# Altium footprint library PCB - LEADED - SOP - TI TSSOP-16 PWP0016C.PcbLib: 1 footprints
Each footprint in its own frame and in the unit in brackets; x right, y up, seen from the top. Pads: shape width x height; smd on the part's side, far side on the other; paste and mask are expansions set on the pad; w line width, h text height; cw(c..) or ccw(c..) is an arc to the next point about the centre after c.
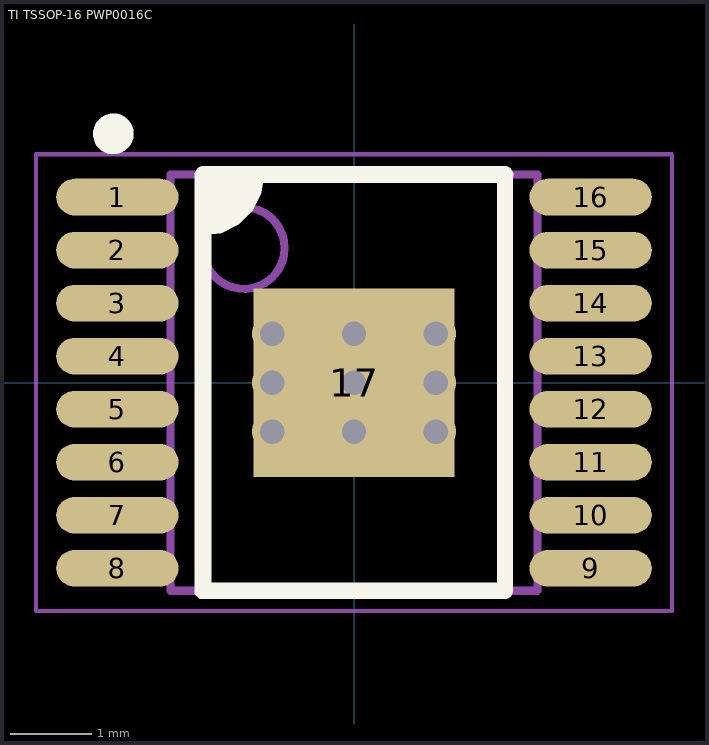
[diagram p0: the footprint, top view; thin cyan lines are the x and y axes]

## TI TSSOP-16 PWP0016C [mm] "TSOP, 16-Leads, Body 5.00x4.45mm, Pitch 0.65mm, Thermal Pad 2.31x2.46mm, IPC Medium Density"
height 1.2
pads (17):
  oval 1.5x0.45 smd: 1(-2.9,2.275) 2(-2.9,1.625) 3(-2.9,0.975) 4(-2.9,0.325) 5(-2.9,-0.325) 6(-2.9,-0.975) 7(-2.9,-1.625) 8(-2.9,-2.275) 9(2.9,-2.275) 10(2.9,-1.625) 11(2.9,-0.975) 12(2.9,-0.325) 13(2.9,0.325) 14(2.9,0.975) 15(2.9,1.625) 16(2.9,2.275)
  rect 2.46x2.31 smd: 17(0,0)
via 0,-0.6 diameter 0.5 hole 0.3
via 0,0.6 diameter 0.5 hole 0.3
via -1,0 diameter 0.5 hole 0.3
via 1,0 diameter 0.5 hole 0.3
via 0,0 diameter 0.5 hole 0.3
via 1,-0.6 diameter 0.5 hole 0.3
via -1,-0.6 diameter 0.5 hole 0.3
via 1,0.6 diameter 0.5 hole 0.3
via -1,0.6 diameter 0.5 hole 0.3
Top Overlay:
  circle w0.25: c-2.95,3.05 r0.125
  region: -1.95,-2.55 -1.95,2.55 -1.95,2.57 -1.935,2.607 -1.907,2.635 -1.87,2.65 -1.85,2.65 1.85,2.65 1.87,2.65 1.907,2.635 1.935,2.607 1.95,2.57 1.95,2.55 1.95,2.53 1.935,2.493 1.907,2.465 1.87,2.45 1.85,2.45 -1.118,2.45 -1.135,2.33 -1.242,2.113 -1.413,1.942 -1.63,1.835 -1.75,1.818 -1.75,-2.55 -1.75,-2.592 -1.808,-2.65 -1.892,-2.65 -1.95,-2.592
  lines w0.1: -1.899,1.864 ccw(c-1.85,2.55) -1.162,2.55
  lines w0.2: -1.85,-2.55 1.85,-2.55 1.85,2.55 -1.85,2.55 -1.85,-2.55
Mechanical 13:
  circle w0.1: c-1.35,1.65 r0.5
  lines w0.1: -2.25,-2.55 -2.25,2.55 2.25,2.55 2.25,-2.55 -2.25,-2.55
Mechanical 15:
  lines w0.05: -3.9,-2.8 -3.9,2.8 3.9,2.8 3.9,-2.8 -3.9,-2.8
Mechanical 2 (Mech9):
  lines w0.1: -0.5,0 0.5,0 ; 0,-0.5 0,0.5
3D body "TI - SOP-16 - PWP0016C v2.STEP": height 1.2, standoff 0, extent -3.2,-2.5 3.2,2.5